# Altium footprint library RHDR8W70P254X254_2X4_1056X500X865P.PcbLib: 1 footprints
Each footprint in its own frame and in the unit in brackets; x right, y up, seen from the top. Pads: shape width x height; smd on the part's side, far side on the other; paste and mask are expansions set on the pad; w line width, h text height; cw(c..) or ccw(c..) is an arc to the next point about the centre after c.
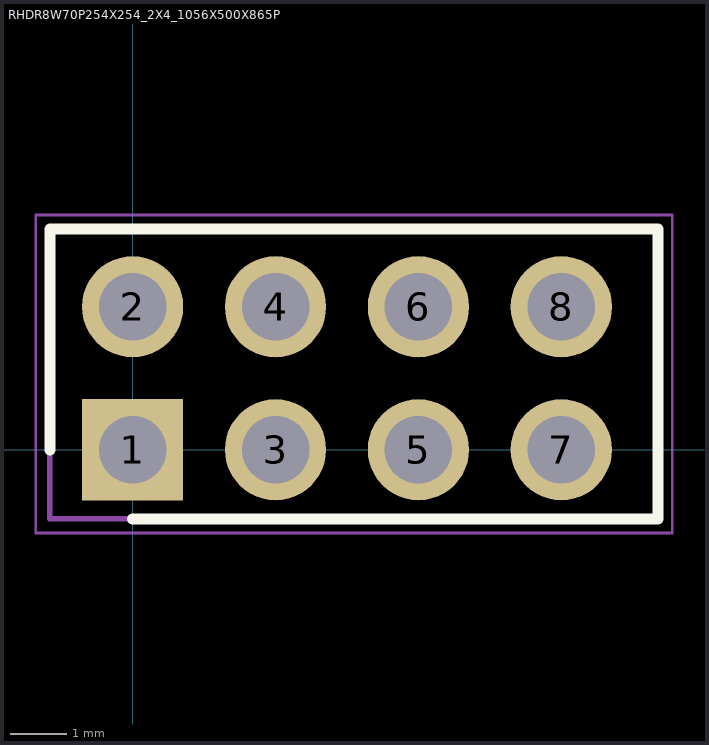
[diagram p0: the footprint, top view; thin cyan lines are the x and y axes]

## RHDR8W70P254X254_2X4_1056X500X865P [mm]
pads (8):
  rect 1.8x1.8 / inner round 1.8 / far side rect 1.8x1.8 hole 1.2: 1(0,0)
  round 1.8 hole 1.2: 2(0,2.54) 3(2.54,0) 4(2.54,2.54) 5(5.08,0) 6(5.08,2.54) 7(7.62,0) 8(7.62,2.54)
Top Overlay:
  lines w0.2: -1.47,0 -1.47,3.92 9.34,3.92 9.34,-1.23 0,-1.23
Mechanical 15:
  lines w0.1: -1.47,-1.23 -1.47,3.92 9.34,3.92 9.34,-1.23 -1.47,-1.23
Mechanical 20:
  lines w0.05: -1.72,-1.48 -1.72,4.17 9.59,4.17 9.59,-1.48 -1.72,-1.48